# Altium integrated library Vishay Roederstein Electrolytic Snap-In Pins Capacitor.IntLib: 936 symbols (part 7 of 16)
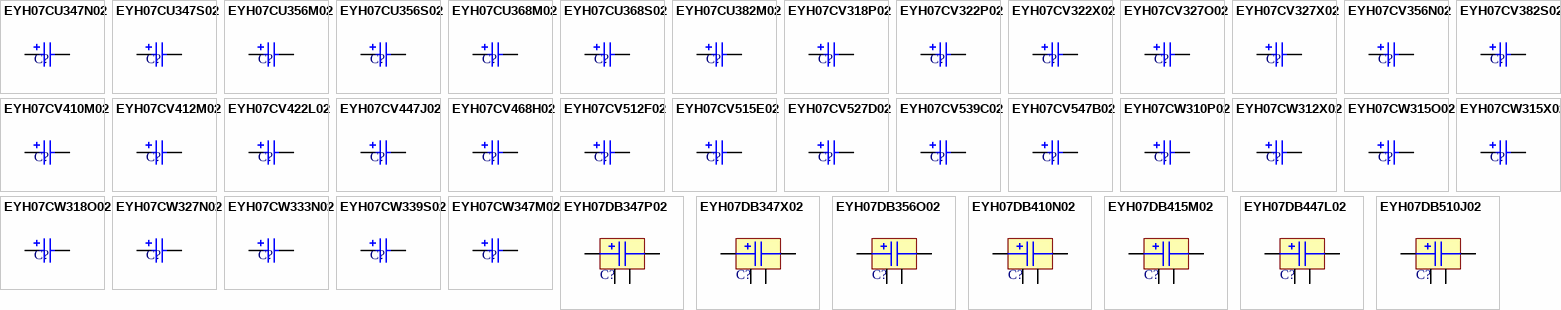
[diagram p29: symbols EYH07CU347N02 to EYH07DB510J02]

## EYH07CU347N02
designator C?
Aluminum Electrolytic Capacitor, Power Capacitor Style EYH, Snap-in 6mm Solder Pins: 470uF, 250V; PCB_Layout: Complies with Manufacturer's Recommendation.; DrillSize: Nominal, Complies with Manufacturer's Recommendation.; Published: 19-Mar-2004; DatasheetDocument: 14-Feb-2002; PackageReference: CAPPRS10-35X25; Publisher: Altium Limited; ComponentLink1Description: Manufacturer Link; ComponentLink1URL: http://www.vishay.com/; ComponentLink2Description: Datasheet; ComponentLink2URL: http://www.vishay.com/docs/25139/eyh.pdf; Value: 470uF
footprint CAPPRS10-35X25 (Capacitor, Electrolytic, Radial, Snap-In Pins; Body 35 x 25 mm (Dia.xH typ); Pin Spacing 10 mm (typ))
simulation model CAP (Capacitor)
signal-integrity model EYH07CU347N02
pins: 1, 2
1 alternate drawing of the same symbol

## EYH07CU347S02
designator C?
Aluminum Electrolytic Capacitor, Power Capacitor Style EYH, Snap-in 6mm Solder Pins: 470uF, 200V; PCB_Layout: Complies with Manufacturer's Recommendation.; DrillSize: Nominal, Complies with Manufacturer's Recommendation.; Published: 19-Mar-2004; DatasheetDocument: 14-Feb-2002; PackageReference: CAPPRS10-35X25; Publisher: Altium Limited; ComponentLink1Description: Manufacturer Link; ComponentLink1URL: http://www.vishay.com/; ComponentLink2Description: Datasheet; ComponentLink2URL: http://www.vishay.com/docs/25139/eyh.pdf; Value: 470uF
footprint CAPPRS10-35X25 (Capacitor, Electrolytic, Radial, Snap-In Pins; Body 35 x 25 mm (Dia.xH typ); Pin Spacing 10 mm (typ))
simulation model CAP (Capacitor)
signal-integrity model EYH07CU347S02
pins: 1, 2
1 alternate drawing of the same symbol

## EYH07CU356M02
designator C?
Aluminum Electrolytic Capacitor, Power Capacitor Style EYH, Snap-in 6mm Solder Pins: 560uF, 160V; PCB_Layout: Complies with Manufacturer's Recommendation.; DrillSize: Nominal, Complies with Manufacturer's Recommendation.; Published: 19-Mar-2004; DatasheetDocument: 14-Feb-2002; PackageReference: CAPPRS10-35X25; Publisher: Altium Limited; ComponentLink1Description: Manufacturer Link; ComponentLink1URL: http://www.vishay.com/; ComponentLink2Description: Datasheet; ComponentLink2URL: http://www.vishay.com/docs/25139/eyh.pdf; Value: 560uF
footprint CAPPRS10-35X25 (Capacitor, Electrolytic, Radial, Snap-In Pins; Body 35 x 25 mm (Dia.xH typ); Pin Spacing 10 mm (typ))
simulation model CAP (Capacitor)
signal-integrity model EYH07CU356M02
pins: 1, 2
1 alternate drawing of the same symbol

## EYH07CU356S02
designator C?
Aluminum Electrolytic Capacitor, Power Capacitor Style EYH, Snap-in 6mm Solder Pins: 560uF, 200V; PCB_Layout: Complies with Manufacturer's Recommendation.; DrillSize: Nominal, Complies with Manufacturer's Recommendation.; Published: 19-Mar-2004; DatasheetDocument: 14-Feb-2002; PackageReference: CAPPRS10-35X25; Publisher: Altium Limited; ComponentLink1Description: Manufacturer Link; ComponentLink1URL: http://www.vishay.com/; ComponentLink2Description: Datasheet; ComponentLink2URL: http://www.vishay.com/docs/25139/eyh.pdf; Value: 560uF
footprint CAPPRS10-35X25 (Capacitor, Electrolytic, Radial, Snap-In Pins; Body 35 x 25 mm (Dia.xH typ); Pin Spacing 10 mm (typ))
simulation model CAP (Capacitor)
signal-integrity model EYH07CU356S02
pins: 1, 2
1 alternate drawing of the same symbol

## EYH07CU368M02
designator C?
Aluminum Electrolytic Capacitor, Power Capacitor Style EYH, Snap-in 6mm Solder Pins: 680uF, 160V; PCB_Layout: Complies with Manufacturer's Recommendation.; DrillSize: Nominal, Complies with Manufacturer's Recommendation.; Published: 19-Mar-2004; DatasheetDocument: 14-Feb-2002; PackageReference: CAPPRS10-35X25; Publisher: Altium Limited; ComponentLink1Description: Manufacturer Link; ComponentLink1URL: http://www.vishay.com/; ComponentLink2Description: Datasheet; ComponentLink2URL: http://www.vishay.com/docs/25139/eyh.pdf; Value: 680uF
footprint CAPPRS10-35X25 (Capacitor, Electrolytic, Radial, Snap-In Pins; Body 35 x 25 mm (Dia.xH typ); Pin Spacing 10 mm (typ))
simulation model CAP (Capacitor)
signal-integrity model EYH07CU368M02
pins: 1, 2
1 alternate drawing of the same symbol

## EYH07CU368S02
designator C?
Aluminum Electrolytic Capacitor, Power Capacitor Style EYH, Snap-in 6mm Solder Pins: 680uF, 200V; PCB_Layout: Complies with Manufacturer's Recommendation.; DrillSize: Nominal, Complies with Manufacturer's Recommendation.; Published: 19-Mar-2004; DatasheetDocument: 14-Feb-2002; PackageReference: CAPPRS10-35X25; Publisher: Altium Limited; ComponentLink1Description: Manufacturer Link; ComponentLink1URL: http://www.vishay.com/; ComponentLink2Description: Datasheet; ComponentLink2URL: http://www.vishay.com/docs/25139/eyh.pdf; Value: 680uF
footprint CAPPRS10-35X25 (Capacitor, Electrolytic, Radial, Snap-In Pins; Body 35 x 25 mm (Dia.xH typ); Pin Spacing 10 mm (typ))
simulation model CAP (Capacitor)
signal-integrity model EYH07CU368S02
pins: 1, 2
1 alternate drawing of the same symbol

## EYH07CU382M02
designator C?
Aluminum Electrolytic Capacitor, Power Capacitor Style EYH, Snap-in 6mm Solder Pins: 820uF, 160V; PCB_Layout: Complies with Manufacturer's Recommendation.; DrillSize: Nominal, Complies with Manufacturer's Recommendation.; Published: 19-Mar-2004; DatasheetDocument: 14-Feb-2002; PackageReference: CAPPRS10-35X25; Publisher: Altium Limited; ComponentLink1Description: Manufacturer Link; ComponentLink1URL: http://www.vishay.com/; ComponentLink2Description: Datasheet; ComponentLink2URL: http://www.vishay.com/docs/25139/eyh.pdf; Value: 820uF
footprint CAPPRS10-35X25 (Capacitor, Electrolytic, Radial, Snap-In Pins; Body 35 x 25 mm (Dia.xH typ); Pin Spacing 10 mm (typ))
simulation model CAP (Capacitor)
signal-integrity model EYH07CU382M02
pins: 1, 2
1 alternate drawing of the same symbol

## EYH07CV318P02
designator C?
Aluminum Electrolytic Capacitor, Power Capacitor Style EYH, Snap-in 6mm Solder Pins: 180uF, 450V; PCB_Layout: Complies with Manufacturer's Recommendation.; DrillSize: Nominal, Complies with Manufacturer's Recommendation.; Published: 19-Mar-2004; DatasheetDocument: 14-Feb-2002; PackageReference: CAPPRS10-35X30; Publisher: Altium Limited; ComponentLink1Description: Manufacturer Link; ComponentLink1URL: http://www.vishay.com/; ComponentLink2Description: Datasheet; ComponentLink2URL: http://www.vishay.com/docs/25139/eyh.pdf; Value: 180uF
footprint CAPPRS10-35X30 (Capacitor, Electrolytic, Radial, Snap-In Pins; Body 35 x 30 mm (Dia.xH typ); Pin Spacing 10 mm (typ))
simulation model CAP (Capacitor)
signal-integrity model EYH07CV318P02
pins: 1, 2
1 alternate drawing of the same symbol

## EYH07CV322P02
designator C?
Aluminum Electrolytic Capacitor, Power Capacitor Style EYH, Snap-in 6mm Solder Pins: 220uF, 450V; PCB_Layout: Complies with Manufacturer's Recommendation.; DrillSize: Nominal, Complies with Manufacturer's Recommendation.; Published: 19-Mar-2004; DatasheetDocument: 14-Feb-2002; PackageReference: CAPPRS10-35X30; Publisher: Altium Limited; ComponentLink1Description: Manufacturer Link; ComponentLink1URL: http://www.vishay.com/; ComponentLink2Description: Datasheet; ComponentLink2URL: http://www.vishay.com/docs/25139/eyh.pdf; Value: 220uF
footprint CAPPRS10-35X30 (Capacitor, Electrolytic, Radial, Snap-In Pins; Body 35 x 30 mm (Dia.xH typ); Pin Spacing 10 mm (typ))
simulation model CAP (Capacitor)
signal-integrity model EYH07CV322P02
pins: 1, 2
1 alternate drawing of the same symbol

## EYH07CV322X02
designator C?
Aluminum Electrolytic Capacitor, Power Capacitor Style EYH, Snap-in 6mm Solder Pins: 220uF, 400V; PCB_Layout: Complies with Manufacturer's Recommendation.; DrillSize: Nominal, Complies with Manufacturer's Recommendation.; Published: 19-Mar-2004; DatasheetDocument: 14-Feb-2002; PackageReference: CAPPRS10-35X30; Publisher: Altium Limited; ComponentLink1Description: Manufacturer Link; ComponentLink1URL: http://www.vishay.com/; ComponentLink2Description: Datasheet; ComponentLink2URL: http://www.vishay.com/docs/25139/eyh.pdf; Value: 220uF
footprint CAPPRS10-35X30 (Capacitor, Electrolytic, Radial, Snap-In Pins; Body 35 x 30 mm (Dia.xH typ); Pin Spacing 10 mm (typ))
simulation model CAP (Capacitor)
signal-integrity model EYH07CV322X02
pins: 1, 2
1 alternate drawing of the same symbol

## EYH07CV327O02
designator C?
Aluminum Electrolytic Capacitor, Power Capacitor Style EYH, Snap-in 6mm Solder Pins: 270uF, 350V; PCB_Layout: Complies with Manufacturer's Recommendation.; DrillSize: Nominal, Complies with Manufacturer's Recommendation.; Published: 19-Mar-2004; DatasheetDocument: 14-Feb-2002; PackageReference: CAPPRS10-35X30; Publisher: Altium Limited; ComponentLink1Description: Manufacturer Link; ComponentLink1URL: http://www.vishay.com/; ComponentLink2Description: Datasheet; ComponentLink2URL: http://www.vishay.com/docs/25139/eyh.pdf; Value: 270uF
footprint CAPPRS10-35X30 (Capacitor, Electrolytic, Radial, Snap-In Pins; Body 35 x 30 mm (Dia.xH typ); Pin Spacing 10 mm (typ))
simulation model CAP (Capacitor)
signal-integrity model EYH07CV327O02
pins: 1, 2
1 alternate drawing of the same symbol

## EYH07CV327X02
designator C?
Aluminum Electrolytic Capacitor, Power Capacitor Style EYH, Snap-in 6mm Solder Pins: 270uF, 400V; PCB_Layout: Complies with Manufacturer's Recommendation.; DrillSize: Nominal, Complies with Manufacturer's Recommendation.; Published: 19-Mar-2004; DatasheetDocument: 14-Feb-2002; PackageReference: CAPPRS10-35X30; Publisher: Altium Limited; ComponentLink1Description: Manufacturer Link; ComponentLink1URL: http://www.vishay.com/; ComponentLink2Description: Datasheet; ComponentLink2URL: http://www.vishay.com/docs/25139/eyh.pdf; Value: 270uF
footprint CAPPRS10-35X30 (Capacitor, Electrolytic, Radial, Snap-In Pins; Body 35 x 30 mm (Dia.xH typ); Pin Spacing 10 mm (typ))
simulation model CAP (Capacitor)
signal-integrity model EYH07CV327X02
pins: 1, 2
1 alternate drawing of the same symbol

## EYH07CV356N02
designator C?
Aluminum Electrolytic Capacitor, Power Capacitor Style EYH, Snap-in 6mm Solder Pins: 560uF, 250V; PCB_Layout: Complies with Manufacturer's Recommendation.; DrillSize: Nominal, Complies with Manufacturer's Recommendation.; Published: 19-Mar-2004; DatasheetDocument: 14-Feb-2002; PackageReference: CAPPRS10-35X30; Publisher: Altium Limited; ComponentLink1Description: Manufacturer Link; ComponentLink1URL: http://www.vishay.com/; ComponentLink2Description: Datasheet; ComponentLink2URL: http://www.vishay.com/docs/25139/eyh.pdf; Value: 560uF
footprint CAPPRS10-35X30 (Capacitor, Electrolytic, Radial, Snap-In Pins; Body 35 x 30 mm (Dia.xH typ); Pin Spacing 10 mm (typ))
simulation model CAP (Capacitor)
signal-integrity model EYH07CV356N02
pins: 1, 2
1 alternate drawing of the same symbol

## EYH07CV382S02
designator C?
Aluminum Electrolytic Capacitor, Power Capacitor Style EYH, Snap-in 6mm Solder Pins: 820uF, 200V; PCB_Layout: Complies with Manufacturer's Recommendation.; DrillSize: Nominal, Complies with Manufacturer's Recommendation.; Published: 19-Mar-2004; DatasheetDocument: 14-Feb-2002; PackageReference: CAPPRS10-35X30; Publisher: Altium Limited; ComponentLink1Description: Manufacturer Link; ComponentLink1URL: http://www.vishay.com/; ComponentLink2Description: Datasheet; ComponentLink2URL: http://www.vishay.com/docs/25139/eyh.pdf; Value: 820uF
footprint CAPPRS10-35X30 (Capacitor, Electrolytic, Radial, Snap-In Pins; Body 35 x 30 mm (Dia.xH typ); Pin Spacing 10 mm (typ))
simulation model CAP (Capacitor)
signal-integrity model EYH07CV382S02
pins: 1, 2
1 alternate drawing of the same symbol

## EYH07CV410M02
designator C?
Aluminum Electrolytic Capacitor, Power Capacitor Style EYH, Snap-in 6mm Solder Pins: 1000uF, 160V; PCB_Layout: Complies with Manufacturer's Recommendation.; DrillSize: Nominal, Complies with Manufacturer's Recommendation.; Published: 19-Mar-2004; DatasheetDocument: 14-Feb-2002; PackageReference: CAPPRS10-35X30; Publisher: Altium Limited; ComponentLink1Description: Manufacturer Link; ComponentLink1URL: http://www.vishay.com/; ComponentLink2Description: Datasheet; ComponentLink2URL: http://www.vishay.com/docs/25139/eyh.pdf; Value: 1000uF
footprint CAPPRS10-35X30 (Capacitor, Electrolytic, Radial, Snap-In Pins; Body 35 x 30 mm (Dia.xH typ); Pin Spacing 10 mm (typ))
simulation model CAP (Capacitor)
signal-integrity model EYH07CV410M02
pins: 1, 2
1 alternate drawing of the same symbol

## EYH07CV412M02
designator C?
Aluminum Electrolytic Capacitor, Power Capacitor Style EYH, Snap-in 6mm Solder Pins: 1200uF, 160V; PCB_Layout: Complies with Manufacturer's Recommendation.; DrillSize: Nominal, Complies with Manufacturer's Recommendation.; Published: 19-Mar-2004; DatasheetDocument: 14-Feb-2002; PackageReference: CAPPRS10-35X30; Publisher: Altium Limited; ComponentLink1Description: Manufacturer Link; ComponentLink1URL: http://www.vishay.com/; ComponentLink2Description: Datasheet; ComponentLink2URL: http://www.vishay.com/docs/25139/eyh.pdf; Value: 1200uF
footprint CAPPRS10-35X30 (Capacitor, Electrolytic, Radial, Snap-In Pins; Body 35 x 30 mm (Dia.xH typ); Pin Spacing 10 mm (typ))
simulation model CAP (Capacitor)
signal-integrity model EYH07CV412M02
pins: 1, 2
1 alternate drawing of the same symbol

## EYH07CV422L02
designator C?
Aluminum Electrolytic Capacitor, Power Capacitor Style EYH, Snap-in 6mm Solder Pins: 2200uF, 100V; PCB_Layout: Complies with Manufacturer's Recommendation.; DrillSize: Nominal, Complies with Manufacturer's Recommendation.; Published: 19-Mar-2004; DatasheetDocument: 14-Feb-2002; PackageReference: CAPPRS10-35X30; Publisher: Altium Limited; ComponentLink1Description: Manufacturer Link; ComponentLink1URL: http://www.vishay.com/; ComponentLink2Description: Datasheet; ComponentLink2URL: http://www.vishay.com/docs/25139/eyh.pdf; Value: 2200uF
footprint CAPPRS10-35X30 (Capacitor, Electrolytic, Radial, Snap-In Pins; Body 35 x 30 mm (Dia.xH typ); Pin Spacing 10 mm (typ))
simulation model CAP (Capacitor)
signal-integrity model EYH07CV422L02
pins: 1, 2
1 alternate drawing of the same symbol

## EYH07CV447J02
designator C?
Aluminum Electrolytic Capacitor, Power Capacitor Style EYH, Snap-in 6mm Solder Pins: 4700uF, 63V; PCB_Layout: Complies with Manufacturer's Recommendation.; DrillSize: Nominal, Complies with Manufacturer's Recommendation.; Published: 19-Mar-2004; DatasheetDocument: 14-Feb-2002; PackageReference: CAPPRS10-35X30; Publisher: Altium Limited; ComponentLink1Description: Manufacturer Link; ComponentLink1URL: http://www.vishay.com/; ComponentLink2Description: Datasheet; ComponentLink2URL: http://www.vishay.com/docs/25139/eyh.pdf; Value: 4700uF
footprint CAPPRS10-35X30 (Capacitor, Electrolytic, Radial, Snap-In Pins; Body 35 x 30 mm (Dia.xH typ); Pin Spacing 10 mm (typ))
simulation model CAP (Capacitor)
signal-integrity model EYH07CV447J02
pins: 1, 2
1 alternate drawing of the same symbol

## EYH07CV468H02
designator C?
Aluminum Electrolytic Capacitor, Power Capacitor Style EYH, Snap-in 6mm Solder Pins: 6800uF, 50V; PCB_Layout: Complies with Manufacturer's Recommendation.; DrillSize: Nominal, Complies with Manufacturer's Recommendation.; Published: 19-Mar-2004; DatasheetDocument: 14-Feb-2002; PackageReference: CAPPRS10-35X30; Publisher: Altium Limited; ComponentLink1Description: Manufacturer Link; ComponentLink1URL: http://www.vishay.com/; ComponentLink2Description: Datasheet; ComponentLink2URL: http://www.vishay.com/docs/25139/eyh.pdf; Value: 6800uF
footprint CAPPRS10-35X30 (Capacitor, Electrolytic, Radial, Snap-In Pins; Body 35 x 30 mm (Dia.xH typ); Pin Spacing 10 mm (typ))
simulation model CAP (Capacitor)
signal-integrity model EYH07CV468H02
pins: 1, 2
1 alternate drawing of the same symbol

## EYH07CV512F02
designator C?
Aluminum Electrolytic Capacitor, Power Capacitor Style EYH, Snap-in 6mm Solder Pins: 12000uF, 35V; PCB_Layout: Complies with Manufacturer's Recommendation.; DrillSize: Nominal, Complies with Manufacturer's Recommendation.; Published: 19-Mar-2004; DatasheetDocument: 14-Feb-2002; PackageReference: CAPPRS10-35X30; Publisher: Altium Limited; ComponentLink1Description: Manufacturer Link; ComponentLink1URL: http://www.vishay.com/; ComponentLink2Description: Datasheet; ComponentLink2URL: http://www.vishay.com/docs/25139/eyh.pdf; Value: 12000uF
footprint CAPPRS10-35X30 (Capacitor, Electrolytic, Radial, Snap-In Pins; Body 35 x 30 mm (Dia.xH typ); Pin Spacing 10 mm (typ))
simulation model CAP (Capacitor)
signal-integrity model EYH07CV512F02
pins: 1, 2
1 alternate drawing of the same symbol

## EYH07CV515E02
designator C?
Aluminum Electrolytic Capacitor, Power Capacitor Style EYH, Snap-in 6mm Solder Pins: 15000uF, 25V; PCB_Layout: Complies with Manufacturer's Recommendation.; DrillSize: Nominal, Complies with Manufacturer's Recommendation.; Published: 19-Mar-2004; DatasheetDocument: 14-Feb-2002; PackageReference: CAPPRS10-35X30; Publisher: Altium Limited; ComponentLink1Description: Manufacturer Link; ComponentLink1URL: http://www.vishay.com/; ComponentLink2Description: Datasheet; ComponentLink2URL: http://www.vishay.com/docs/25139/eyh.pdf; Value: 15000uF
footprint CAPPRS10-35X30 (Capacitor, Electrolytic, Radial, Snap-In Pins; Body 35 x 30 mm (Dia.xH typ); Pin Spacing 10 mm (typ))
simulation model CAP (Capacitor)
signal-integrity model EYH07CV515E02
pins: 1, 2
1 alternate drawing of the same symbol

## EYH07CV527D02
designator C?
Aluminum Electrolytic Capacitor, Power Capacitor Style EYH, Snap-in 6mm Solder Pins: 27000uF, 16V; PCB_Layout: Complies with Manufacturer's Recommendation.; DrillSize: Nominal, Complies with Manufacturer's Recommendation.; Published: 19-Mar-2004; DatasheetDocument: 14-Feb-2002; PackageReference: CAPPRS10-35X30; Publisher: Altium Limited; ComponentLink1Description: Manufacturer Link; ComponentLink1URL: http://www.vishay.com/; ComponentLink2Description: Datasheet; ComponentLink2URL: http://www.vishay.com/docs/25139/eyh.pdf; Value: 27000uF
footprint CAPPRS10-35X30 (Capacitor, Electrolytic, Radial, Snap-In Pins; Body 35 x 30 mm (Dia.xH typ); Pin Spacing 10 mm (typ))
simulation model CAP (Capacitor)
signal-integrity model EYH07CV527D02
pins: 1, 2
1 alternate drawing of the same symbol

## EYH07CV539C02
designator C?
Aluminum Electrolytic Capacitor, Power Capacitor Style EYH, Snap-in 6mm Solder Pins: 39000uF, 10V; PCB_Layout: Complies with Manufacturer's Recommendation.; DrillSize: Nominal, Complies with Manufacturer's Recommendation.; Published: 19-Mar-2004; DatasheetDocument: 14-Feb-2002; PackageReference: CAPPRS10-35X30; Publisher: Altium Limited; ComponentLink1Description: Manufacturer Link; ComponentLink1URL: http://www.vishay.com/; ComponentLink2Description: Datasheet; ComponentLink2URL: http://www.vishay.com/docs/25139/eyh.pdf; Value: 39000uF
footprint CAPPRS10-35X30 (Capacitor, Electrolytic, Radial, Snap-In Pins; Body 35 x 30 mm (Dia.xH typ); Pin Spacing 10 mm (typ))
simulation model CAP (Capacitor)
signal-integrity model EYH07CV539C02
pins: 1, 2
1 alternate drawing of the same symbol

## EYH07CV547B02
designator C?
Aluminum Electrolytic Capacitor, Power Capacitor Style EYH, Snap-in 6mm Solder Pins: 47000uF, 6.3V; PCB_Layout: Complies with Manufacturer's Recommendation.; DrillSize: Nominal, Complies with Manufacturer's Recommendation.; Published: 19-Mar-2004; DatasheetDocument: 14-Feb-2002; PackageReference: CAPPRS10-35X30; Publisher: Altium Limited; ComponentLink1Description: Manufacturer Link; ComponentLink1URL: http://www.vishay.com/; ComponentLink2Description: Datasheet; ComponentLink2URL: http://www.vishay.com/docs/25139/eyh.pdf; Value: 47000uF
footprint CAPPRS10-35X30 (Capacitor, Electrolytic, Radial, Snap-In Pins; Body 35 x 30 mm (Dia.xH typ); Pin Spacing 10 mm (typ))
simulation model CAP (Capacitor)
signal-integrity model EYH07CV547B02
pins: 1, 2
1 alternate drawing of the same symbol

## EYH07CW310P02
designator C?
Aluminum Electrolytic Capacitor, Power Capacitor Style EYH, Snap-in 6mm Solder Pins: 100uF, 450V; PCB_Layout: Complies with Manufacturer's Recommendation.; DrillSize: Nominal, Complies with Manufacturer's Recommendation.; Published: 19-Mar-2004; DatasheetDocument: 14-Feb-2002; PackageReference: CAPPRS10-35X20; Publisher: Altium Limited; ComponentLink1Description: Manufacturer Link; ComponentLink1URL: http://www.vishay.com/; ComponentLink2Description: Datasheet; ComponentLink2URL: http://www.vishay.com/docs/25139/eyh.pdf; Value: 100uF
footprint CAPPRS10-35X20 (Capacitor, Electrolytic, Radial, Snap-In Pins; Body 35 x 20 mm (Dia.xH typ); Pin Spacing 10 mm (typ))
simulation model CAP (Capacitor)
signal-integrity model EYH07CW310P02
pins: 1, 2
1 alternate drawing of the same symbol

## EYH07CW312X02
designator C?
Aluminum Electrolytic Capacitor, Power Capacitor Style EYH, Snap-in 6mm Solder Pins: 120uF, 400V; PCB_Layout: Complies with Manufacturer's Recommendation.; DrillSize: Nominal, Complies with Manufacturer's Recommendation.; Published: 19-Mar-2004; DatasheetDocument: 14-Feb-2002; PackageReference: CAPPRS10-35X20; Publisher: Altium Limited; ComponentLink1Description: Manufacturer Link; ComponentLink1URL: http://www.vishay.com/; ComponentLink2Description: Datasheet; ComponentLink2URL: http://www.vishay.com/docs/25139/eyh.pdf; Value: 120uF
footprint CAPPRS10-35X20 (Capacitor, Electrolytic, Radial, Snap-In Pins; Body 35 x 20 mm (Dia.xH typ); Pin Spacing 10 mm (typ))
simulation model CAP (Capacitor)
signal-integrity model EYH07CW312X02
pins: 1, 2
1 alternate drawing of the same symbol

## EYH07CW315O02
designator C?
Aluminum Electrolytic Capacitor, Power Capacitor Style EYH, Snap-in 6mm Solder Pins: 150uF, 350V; PCB_Layout: Complies with Manufacturer's Recommendation.; DrillSize: Nominal, Complies with Manufacturer's Recommendation.; Published: 19-Mar-2004; DatasheetDocument: 14-Feb-2002; PackageReference: CAPPRS10-35X20; Publisher: Altium Limited; ComponentLink1Description: Manufacturer Link; ComponentLink1URL: http://www.vishay.com/; ComponentLink2Description: Datasheet; ComponentLink2URL: http://www.vishay.com/docs/25139/eyh.pdf; Value: 150uF
footprint CAPPRS10-35X20 (Capacitor, Electrolytic, Radial, Snap-In Pins; Body 35 x 20 mm (Dia.xH typ); Pin Spacing 10 mm (typ))
simulation model CAP (Capacitor)
signal-integrity model EYH07CW315O02
pins: 1, 2
1 alternate drawing of the same symbol

## EYH07CW315X02
designator C?
Aluminum Electrolytic Capacitor, Power Capacitor Style EYH, Snap-in 6mm Solder Pins: 150uF, 400V; PCB_Layout: Complies with Manufacturer's Recommendation.; DrillSize: Nominal, Complies with Manufacturer's Recommendation.; Published: 19-Mar-2004; DatasheetDocument: 14-Feb-2002; PackageReference: CAPPRS10-35X20; Publisher: Altium Limited; ComponentLink1Description: Manufacturer Link; ComponentLink1URL: http://www.vishay.com/; ComponentLink2Description: Datasheet; ComponentLink2URL: http://www.vishay.com/docs/25139/eyh.pdf; Value: 150uF
footprint CAPPRS10-35X20 (Capacitor, Electrolytic, Radial, Snap-In Pins; Body 35 x 20 mm (Dia.xH typ); Pin Spacing 10 mm (typ))
simulation model CAP (Capacitor)
signal-integrity model EYH07CW315X02
pins: 1, 2
1 alternate drawing of the same symbol

## EYH07CW318O02
designator C?
Aluminum Electrolytic Capacitor, Power Capacitor Style EYH, Snap-in 6mm Solder Pins: 180uF, 350V; PCB_Layout: Complies with Manufacturer's Recommendation.; DrillSize: Nominal, Complies with Manufacturer's Recommendation.; Published: 19-Mar-2004; DatasheetDocument: 14-Feb-2002; PackageReference: CAPPRS10-35X20; Publisher: Altium Limited; ComponentLink1Description: Manufacturer Link; ComponentLink1URL: http://www.vishay.com/; ComponentLink2Description: Datasheet; ComponentLink2URL: http://www.vishay.com/docs/25139/eyh.pdf; Value: 180uF
footprint CAPPRS10-35X20 (Capacitor, Electrolytic, Radial, Snap-In Pins; Body 35 x 20 mm (Dia.xH typ); Pin Spacing 10 mm (typ))
simulation model CAP (Capacitor)
signal-integrity model EYH07CW318O02
pins: 1, 2
1 alternate drawing of the same symbol

## EYH07CW327N02
designator C?
Aluminum Electrolytic Capacitor, Power Capacitor Style EYH, Snap-in 6mm Solder Pins: 270uF, 250V; PCB_Layout: Complies with Manufacturer's Recommendation.; DrillSize: Nominal, Complies with Manufacturer's Recommendation.; Published: 19-Mar-2004; DatasheetDocument: 14-Feb-2002; PackageReference: CAPPRS10-35X20; Publisher: Altium Limited; ComponentLink1Description: Manufacturer Link; ComponentLink1URL: http://www.vishay.com/; ComponentLink2Description: Datasheet; ComponentLink2URL: http://www.vishay.com/docs/25139/eyh.pdf; Value: 270uF
footprint CAPPRS10-35X20 (Capacitor, Electrolytic, Radial, Snap-In Pins; Body 35 x 20 mm (Dia.xH typ); Pin Spacing 10 mm (typ))
simulation model CAP (Capacitor)
signal-integrity model EYH07CW327N02
pins: 1, 2
1 alternate drawing of the same symbol

## EYH07CW333N02
designator C?
Aluminum Electrolytic Capacitor, Power Capacitor Style EYH, Snap-in 6mm Solder Pins: 330uF, 250V; PCB_Layout: Complies with Manufacturer's Recommendation.; DrillSize: Nominal, Complies with Manufacturer's Recommendation.; Published: 19-Mar-2004; DatasheetDocument: 14-Feb-2002; PackageReference: CAPPRS10-35X20; Publisher: Altium Limited; ComponentLink1Description: Manufacturer Link; ComponentLink1URL: http://www.vishay.com/; ComponentLink2Description: Datasheet; ComponentLink2URL: http://www.vishay.com/docs/25139/eyh.pdf; Value: 330uF
footprint CAPPRS10-35X20 (Capacitor, Electrolytic, Radial, Snap-In Pins; Body 35 x 20 mm (Dia.xH typ); Pin Spacing 10 mm (typ))
simulation model CAP (Capacitor)
signal-integrity model EYH07CW333N02
pins: 1, 2
1 alternate drawing of the same symbol

## EYH07CW339S02
designator C?
Aluminum Electrolytic Capacitor, Power Capacitor Style EYH, Snap-in 6mm Solder Pins: 390uF, 200V; PCB_Layout: Complies with Manufacturer's Recommendation.; DrillSize: Nominal, Complies with Manufacturer's Recommendation.; Published: 19-Mar-2004; DatasheetDocument: 14-Feb-2002; PackageReference: CAPPRS10-35X20; Publisher: Altium Limited; ComponentLink1Description: Manufacturer Link; ComponentLink1URL: http://www.vishay.com/; ComponentLink2Description: Datasheet; ComponentLink2URL: http://www.vishay.com/docs/25139/eyh.pdf; Value: 390uF
footprint CAPPRS10-35X20 (Capacitor, Electrolytic, Radial, Snap-In Pins; Body 35 x 20 mm (Dia.xH typ); Pin Spacing 10 mm (typ))
simulation model CAP (Capacitor)
signal-integrity model EYH07CW339S02
pins: 1, 2
1 alternate drawing of the same symbol

## EYH07CW347M02
designator C?
Aluminum Electrolytic Capacitor, Power Capacitor Style EYH, Snap-in 6mm Solder Pins: 470uF, 160V; PCB_Layout: Complies with Manufacturer's Recommendation.; DrillSize: Nominal, Complies with Manufacturer's Recommendation.; Published: 19-Mar-2004; DatasheetDocument: 14-Feb-2002; PackageReference: CAPPRS10-35X20; Publisher: Altium Limited; ComponentLink1Description: Manufacturer Link; ComponentLink1URL: http://www.vishay.com/; ComponentLink2Description: Datasheet; ComponentLink2URL: http://www.vishay.com/docs/25139/eyh.pdf; Value: 470uF
footprint CAPPRS10-35X20 (Capacitor, Electrolytic, Radial, Snap-In Pins; Body 35 x 20 mm (Dia.xH typ); Pin Spacing 10 mm (typ))
simulation model CAP (Capacitor)
signal-integrity model EYH07CW347M02
pins: 1, 2
1 alternate drawing of the same symbol

## EYH07DB347P02
designator C?
Aluminum Electrolytic Capacitor, Power Capacitor Style EYH, Snap-in 6mm Solder Pins: 470uF, 450V; Note: Pins 3 and 4 are Mounting Fixtures Only; PCB_Layout: Complies with Manufacturer's Recommendation.; DrillSize: Nominal, Complies with Manufacturer's Recommendation.; Published: 19-Mar-2004; DatasheetDocument: 14-Feb-2002; PackageReference: CAPPRS22.5-40X40-4; Publisher: Altium Limited; ComponentLink1Description: Manufacturer Link; ComponentLink1URL: http://www.vishay.com/; ComponentLink2Description: Datasheet; ComponentLink2URL: http://www.vishay.com/docs/25139/eyh.pdf
footprint CAPPRS22.5-40X40-4 (Capacitor, Electrolytic, Radial, Snap-In Pins; Body 40 x 40 mm (Dia.xH typ); Pin Spacing 22.5 mm (typ))
simulation model CAP (Capacitor)
pins: 1, 2, 3 MH, 4 MH

## EYH07DB347X02
designator C?
Aluminum Electrolytic Capacitor, Power Capacitor Style EYH, Snap-in 6mm Solder Pins: 470uF, 400V; Note: Pins 3 and 4 are Mounting Fixtures Only; PCB_Layout: Complies with Manufacturer's Recommendation.; DrillSize: Nominal, Complies with Manufacturer's Recommendation.; Published: 19-Mar-2004; DatasheetDocument: 14-Feb-2002; PackageReference: CAPPRS22.5-40X40-4; Publisher: Altium Limited; ComponentLink1Description: Manufacturer Link; ComponentLink1URL: http://www.vishay.com/; ComponentLink2Description: Datasheet; ComponentLink2URL: http://www.vishay.com/docs/25139/eyh.pdf
footprint CAPPRS22.5-40X40-4 (Capacitor, Electrolytic, Radial, Snap-In Pins; Body 40 x 40 mm (Dia.xH typ); Pin Spacing 22.5 mm (typ))
simulation model CAP (Capacitor)
pins: 1, 2, 3 MH, 4 MH

## EYH07DB356O02
designator C?
Aluminum Electrolytic Capacitor, Power Capacitor Style EYH, Snap-in 6mm Solder Pins: 560uF, 350V; Note: Pins 3 and 4 are Mounting Fixtures Only; PCB_Layout: Complies with Manufacturer's Recommendation.; DrillSize: Nominal, Complies with Manufacturer's Recommendation.; Published: 19-Mar-2004; DatasheetDocument: 14-Feb-2002; PackageReference: CAPPRS22.5-40X40-4; Publisher: Altium Limited; ComponentLink1Description: Manufacturer Link; ComponentLink1URL: http://www.vishay.com/; ComponentLink2Description: Datasheet; ComponentLink2URL: http://www.vishay.com/docs/25139/eyh.pdf
footprint CAPPRS22.5-40X40-4 (Capacitor, Electrolytic, Radial, Snap-In Pins; Body 40 x 40 mm (Dia.xH typ); Pin Spacing 22.5 mm (typ))
simulation model CAP (Capacitor)
pins: 1, 2, 3 MH, 4 MH

## EYH07DB410N02
designator C?
Aluminum Electrolytic Capacitor, Power Capacitor Style EYH, Snap-in 6mm Solder Pins: 1000uF, 250V; Note: Pins 3 and 4 are Mounting Fixtures Only; PCB_Layout: Complies with Manufacturer's Recommendation.; DrillSize: Nominal, Complies with Manufacturer's Recommendation.; Published: 19-Mar-2004; DatasheetDocument: 14-Feb-2002; PackageReference: CAPPRS22.5-40X40-4; Publisher: Altium Limited; ComponentLink1Description: Manufacturer Link; ComponentLink1URL: http://www.vishay.com/; ComponentLink2Description: Datasheet; ComponentLink2URL: http://www.vishay.com/docs/25139/eyh.pdf
footprint CAPPRS22.5-40X40-4 (Capacitor, Electrolytic, Radial, Snap-In Pins; Body 40 x 40 mm (Dia.xH typ); Pin Spacing 22.5 mm (typ))
simulation model CAP (Capacitor)
pins: 1, 2, 3 MH, 4 MH

## EYH07DB415M02
designator C?
Aluminum Electrolytic Capacitor, Power Capacitor Style EYH, Snap-in 6mm Solder Pins: 1500uF, 160V; Note: Pins 3 and 4 are Mounting Fixtures Only; PCB_Layout: Complies with Manufacturer's Recommendation.; DrillSize: Nominal, Complies with Manufacturer's Recommendation.; Published: 19-Mar-2004; DatasheetDocument: 14-Feb-2002; PackageReference: CAPPRS22.5-40X40-4; Publisher: Altium Limited; ComponentLink1Description: Manufacturer Link; ComponentLink1URL: http://www.vishay.com/; ComponentLink2Description: Datasheet; ComponentLink2URL: http://www.vishay.com/docs/25139/eyh.pdf
footprint CAPPRS22.5-40X40-4 (Capacitor, Electrolytic, Radial, Snap-In Pins; Body 40 x 40 mm (Dia.xH typ); Pin Spacing 22.5 mm (typ))
simulation model CAP (Capacitor)
pins: 1, 2, 3 MH, 4 MH

## EYH07DB447L02
designator C?
Aluminum Electrolytic Capacitor, Power Capacitor Style EYH, Snap-in 6mm Solder Pins: 4700uF, 100V; Note: Pins 3 and 4 are Mounting Fixtures Only; PCB_Layout: Complies with Manufacturer's Recommendation.; DrillSize: Nominal, Complies with Manufacturer's Recommendation.; Published: 19-Mar-2004; DatasheetDocument: 14-Feb-2002; PackageReference: CAPPRS22.5-40X40-4; Publisher: Altium Limited; ComponentLink1Description: Manufacturer Link; ComponentLink1URL: http://www.vishay.com/; ComponentLink2Description: Datasheet; ComponentLink2URL: http://www.vishay.com/docs/25139/eyh.pdf
footprint CAPPRS22.5-40X40-4 (Capacitor, Electrolytic, Radial, Snap-In Pins; Body 40 x 40 mm (Dia.xH typ); Pin Spacing 22.5 mm (typ))
simulation model CAP (Capacitor)
pins: 1, 2, 3 MH, 4 MH

## EYH07DB510J02
designator C?
Aluminum Electrolytic Capacitor, Power Capacitor Style EYH, Snap-in 6mm Solder Pins: 10000uF, 63V; Note: Pins 3 and 4 are Mounting Fixtures Only; PCB_Layout: Complies with Manufacturer's Recommendation.; DrillSize: Nominal, Complies with Manufacturer's Recommendation.; Published: 19-Mar-2004; DatasheetDocument: 14-Feb-2002; PackageReference: CAPPRS22.5-40X60-4; Publisher: Altium Limited; ComponentLink1Description: Manufacturer Link; ComponentLink1URL: http://www.vishay.com/; ComponentLink2Description: Datasheet; ComponentLink2URL: http://www.vishay.com/docs/25139/eyh.pdf
footprint CAPPRS22.5-40X60-4 (Capacitor, Electrolytic, Radial, Snap-In Pins; Body 40 x 60 mm (Dia.xH typ); Pin Spacing 22.5 mm (typ))
simulation model CAP (Capacitor)
pins: 1, 2, 3 MH, 4 MH

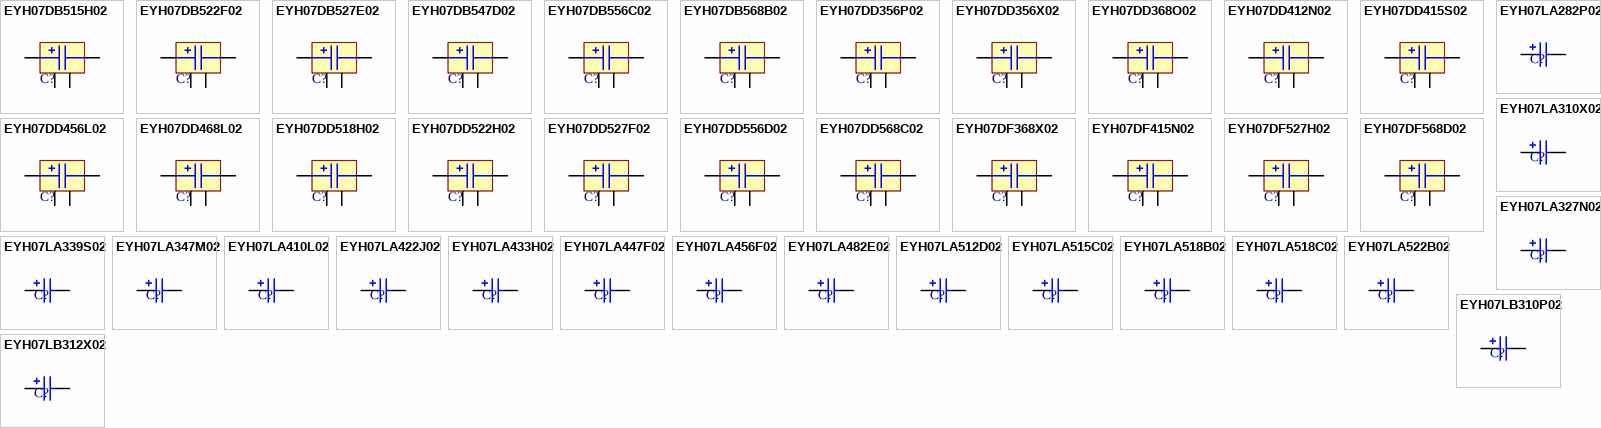
[diagram p10: symbols EYH07DB515H02 to EYH07LB312X02]

## EYH07DB515H02
designator C?
Aluminum Electrolytic Capacitor, Power Capacitor Style EYH, Snap-in 6mm Solder Pins: 15000uF, 50V; Note: Pins 3 and 4 are Mounting Fixtures Only; PCB_Layout: Complies with Manufacturer's Recommendation.; DrillSize: Nominal, Complies with Manufacturer's Recommendation.; Published: 19-Mar-2004; DatasheetDocument: 14-Feb-2002; PackageReference: CAPPRS22.5-40X40-4; Publisher: Altium Limited; ComponentLink1Description: Manufacturer Link; ComponentLink1URL: http://www.vishay.com/; ComponentLink2Description: Datasheet; ComponentLink2URL: http://www.vishay.com/docs/25139/eyh.pdf
footprint CAPPRS22.5-40X40-4 (Capacitor, Electrolytic, Radial, Snap-In Pins; Body 40 x 40 mm (Dia.xH typ); Pin Spacing 22.5 mm (typ))
simulation model CAP (Capacitor)
pins: 1, 2, 3 MH, 4 MH

## EYH07DB522F02
designator C?
Aluminum Electrolytic Capacitor, Power Capacitor Style EYH, Snap-in 6mm Solder Pins: 22000uF, 35V; Note: Pins 3 and 4 are Mounting Fixtures Only; PCB_Layout: Complies with Manufacturer's Recommendation.; DrillSize: Nominal, Complies with Manufacturer's Recommendation.; Published: 19-Mar-2004; DatasheetDocument: 14-Feb-2002; PackageReference: CAPPRS22.5-40X40-4; Publisher: Altium Limited; ComponentLink1Description: Manufacturer Link; ComponentLink1URL: http://www.vishay.com/; ComponentLink2Description: Datasheet; ComponentLink2URL: http://www.vishay.com/docs/25139/eyh.pdf
footprint CAPPRS22.5-40X40-4 (Capacitor, Electrolytic, Radial, Snap-In Pins; Body 40 x 40 mm (Dia.xH typ); Pin Spacing 22.5 mm (typ))
simulation model CAP (Capacitor)
pins: 1, 2, 3 MH, 4 MH

## EYH07DB527E02
designator C?
Aluminum Electrolytic Capacitor, Power Capacitor Style EYH, Snap-in 6mm Solder Pins: 27000uF, 25V; Note: Pins 3 and 4 are Mounting Fixtures Only; PCB_Layout: Complies with Manufacturer's Recommendation.; DrillSize: Nominal, Complies with Manufacturer's Recommendation.; Published: 19-Mar-2004; DatasheetDocument: 14-Feb-2002; PackageReference: CAPPRS22.5-40X40-4; Publisher: Altium Limited; ComponentLink1Description: Manufacturer Link; ComponentLink1URL: http://www.vishay.com/; ComponentLink2Description: Datasheet; ComponentLink2URL: http://www.vishay.com/docs/25139/eyh.pdf
footprint CAPPRS22.5-40X40-4 (Capacitor, Electrolytic, Radial, Snap-In Pins; Body 40 x 40 mm (Dia.xH typ); Pin Spacing 22.5 mm (typ))
simulation model CAP (Capacitor)
pins: 1, 2, 3 MH, 4 MH

## EYH07DB547D02
designator C?
Aluminum Electrolytic Capacitor, Power Capacitor Style EYH, Snap-in 6mm Solder Pins: 47000uF, 16V; Note: Pins 3 and 4 are Mounting Fixtures Only; PCB_Layout: Complies with Manufacturer's Recommendation.; DrillSize: Nominal, Complies with Manufacturer's Recommendation.; Published: 19-Mar-2004; DatasheetDocument: 14-Feb-2002; PackageReference: CAPPRS22.5-40X40-4; Publisher: Altium Limited; ComponentLink1Description: Manufacturer Link; ComponentLink1URL: http://www.vishay.com/; ComponentLink2Description: Datasheet; ComponentLink2URL: http://www.vishay.com/docs/25139/eyh.pdf
footprint CAPPRS22.5-40X40-4 (Capacitor, Electrolytic, Radial, Snap-In Pins; Body 40 x 40 mm (Dia.xH typ); Pin Spacing 22.5 mm (typ))
simulation model CAP (Capacitor)
pins: 1, 2, 3 MH, 4 MH

## EYH07DB556C02
designator C?
Aluminum Electrolytic Capacitor, Power Capacitor Style EYH, Snap-in 6mm Solder Pins: 56000uF, 10V; Note: Pins 3 and 4 are Mounting Fixtures Only; PCB_Layout: Complies with Manufacturer's Recommendation.; DrillSize: Nominal, Complies with Manufacturer's Recommendation.; Published: 19-Mar-2004; DatasheetDocument: 14-Feb-2002; PackageReference: CAPPRS22.5-40X40-4; Publisher: Altium Limited; ComponentLink1Description: Manufacturer Link; ComponentLink1URL: http://www.vishay.com/; ComponentLink2Description: Datasheet; ComponentLink2URL: http://www.vishay.com/docs/25139/eyh.pdf
footprint CAPPRS22.5-40X40-4 (Capacitor, Electrolytic, Radial, Snap-In Pins; Body 40 x 40 mm (Dia.xH typ); Pin Spacing 22.5 mm (typ))
simulation model CAP (Capacitor)
pins: 1, 2, 3 MH, 4 MH

## EYH07DB568B02
designator C?
Aluminum Electrolytic Capacitor, Power Capacitor Style EYH, Snap-in 6mm Solder Pins: 68000uF, 6.3V; Note: Pins 3 and 4 are Mounting Fixtures Only; PCB_Layout: Complies with Manufacturer's Recommendation.; DrillSize: Nominal, Complies with Manufacturer's Recommendation.; Published: 19-Mar-2004; DatasheetDocument: 14-Feb-2002; PackageReference: CAPPRS22.5-40X40-4; Publisher: Altium Limited; ComponentLink1Description: Manufacturer Link; ComponentLink1URL: http://www.vishay.com/; ComponentLink2Description: Datasheet; ComponentLink2URL: http://www.vishay.com/docs/25139/eyh.pdf
footprint CAPPRS22.5-40X40-4 (Capacitor, Electrolytic, Radial, Snap-In Pins; Body 40 x 40 mm (Dia.xH typ); Pin Spacing 22.5 mm (typ))
simulation model CAP (Capacitor)
pins: 1, 2, 3 MH, 4 MH

## EYH07DD356P02
designator C?
Aluminum Electrolytic Capacitor, Power Capacitor Style EYH, Snap-in 6mm Solder Pins: 560uF, 450V; Note: Pins 3 and 4 are Mounting Fixtures Only; PCB_Layout: Complies with Manufacturer's Recommendation.; DrillSize: Nominal, Complies with Manufacturer's Recommendation.; Published: 19-Mar-2004; DatasheetDocument: 14-Feb-2002; PackageReference: CAPPRS22.5-40X50-4; Publisher: Altium Limited; ComponentLink1Description: Manufacturer Link; ComponentLink1URL: http://www.vishay.com/; ComponentLink2Description: Datasheet; ComponentLink2URL: http://www.vishay.com/docs/25139/eyh.pdf
footprint CAPPRS22.5-40X50-4 (Capacitor, Electrolytic, Radial, Snap-In Pins; Body 40 x 50 mm (Dia.xH typ); Pin Spacing 22.5 mm (typ))
simulation model CAP (Capacitor)
pins: 1, 2, 3 MH, 4 MH

## EYH07DD356X02
designator C?
Aluminum Electrolytic Capacitor, Power Capacitor Style EYH, Snap-in 6mm Solder Pins: 560uF, 400V; Note: Pins 3 and 4 are Mounting Fixtures Only; PCB_Layout: Complies with Manufacturer's Recommendation.; DrillSize: Nominal, Complies with Manufacturer's Recommendation.; Published: 19-Mar-2004; DatasheetDocument: 14-Feb-2002; PackageReference: CAPPRS22.5-40X50-4; Publisher: Altium Limited; ComponentLink1Description: Manufacturer Link; ComponentLink1URL: http://www.vishay.com/; ComponentLink2Description: Datasheet; ComponentLink2URL: http://www.vishay.com/docs/25139/eyh.pdf
footprint CAPPRS22.5-40X50-4 (Capacitor, Electrolytic, Radial, Snap-In Pins; Body 40 x 50 mm (Dia.xH typ); Pin Spacing 22.5 mm (typ))
simulation model CAP (Capacitor)
pins: 1, 2, 3 MH, 4 MH

## EYH07DD368O02
designator C?
Aluminum Electrolytic Capacitor, Power Capacitor Style EYH, Snap-in 6mm Solder Pins: 680uF, 350V; Note: Pins 3 and 4 are Mounting Fixtures Only; PCB_Layout: Complies with Manufacturer's Recommendation.; DrillSize: Nominal, Complies with Manufacturer's Recommendation.; Published: 19-Mar-2004; DatasheetDocument: 14-Feb-2002; PackageReference: CAPPRS22.5-40X50-4; Publisher: Altium Limited; ComponentLink1Description: Manufacturer Link; ComponentLink1URL: http://www.vishay.com/; ComponentLink2Description: Datasheet; ComponentLink2URL: http://www.vishay.com/docs/25139/eyh.pdf
footprint CAPPRS22.5-40X50-4 (Capacitor, Electrolytic, Radial, Snap-In Pins; Body 40 x 50 mm (Dia.xH typ); Pin Spacing 22.5 mm (typ))
simulation model CAP (Capacitor)
pins: 1, 2, 3 MH, 4 MH

## EYH07DD412N02
designator C?
Aluminum Electrolytic Capacitor, Power Capacitor Style EYH, Snap-in 6mm Solder Pins: 1200uF, 250V; Note: Pins 3 and 4 are Mounting Fixtures Only; PCB_Layout: Complies with Manufacturer's Recommendation.; DrillSize: Nominal, Complies with Manufacturer's Recommendation.; Published: 19-Mar-2004; DatasheetDocument: 14-Feb-2002; PackageReference: CAPPRS22.5-40X50-4; Publisher: Altium Limited; ComponentLink1Description: Manufacturer Link; ComponentLink1URL: http://www.vishay.com/; ComponentLink2Description: Datasheet; ComponentLink2URL: http://www.vishay.com/docs/25139/eyh.pdf
footprint CAPPRS22.5-40X50-4 (Capacitor, Electrolytic, Radial, Snap-In Pins; Body 40 x 50 mm (Dia.xH typ); Pin Spacing 22.5 mm (typ))
simulation model CAP (Capacitor)
pins: 1, 2, 3 MH, 4 MH

## EYH07DD415S02
designator C?
Aluminum Electrolytic Capacitor, Power Capacitor Style EYH, Snap-in 6mm Solder Pins: 1500uF, 200V; Note: Pins 3 and 4 are Mounting Fixtures Only; PCB_Layout: Complies with Manufacturer's Recommendation.; DrillSize: Nominal, Complies with Manufacturer's Recommendation.; Published: 19-Mar-2004; DatasheetDocument: 14-Feb-2002; PackageReference: CAPPRS22.5-40X50-4; Publisher: Altium Limited; ComponentLink1Description: Manufacturer Link; ComponentLink1URL: http://www.vishay.com/; ComponentLink2Description: Datasheet; ComponentLink2URL: http://www.vishay.com/docs/25139/eyh.pdf
footprint CAPPRS22.5-40X50-4 (Capacitor, Electrolytic, Radial, Snap-In Pins; Body 40 x 50 mm (Dia.xH typ); Pin Spacing 22.5 mm (typ))
simulation model CAP (Capacitor)
pins: 1, 2, 3 MH, 4 MH

## EYH07DD456L02
designator C?
Aluminum Electrolytic Capacitor, Power Capacitor Style EYH, Snap-in 6mm Solder Pins: 5600uF, 100V; Note: Pins 3 and 4 are Mounting Fixtures Only; PCB_Layout: Complies with Manufacturer's Recommendation.; DrillSize: Nominal, Complies with Manufacturer's Recommendation.; Published: 19-Mar-2004; DatasheetDocument: 14-Feb-2002; PackageReference: CAPPRS22.5-40X50-4; Publisher: Altium Limited; ComponentLink1Description: Manufacturer Link; ComponentLink1URL: http://www.vishay.com/; ComponentLink2Description: Datasheet; ComponentLink2URL: http://www.vishay.com/docs/25139/eyh.pdf
footprint CAPPRS22.5-40X50-4 (Capacitor, Electrolytic, Radial, Snap-In Pins; Body 40 x 50 mm (Dia.xH typ); Pin Spacing 22.5 mm (typ))
simulation model CAP (Capacitor)
pins: 1, 2, 3 MH, 4 MH

## EYH07DD468L02
designator C?
Aluminum Electrolytic Capacitor, Power Capacitor Style EYH, Snap-in 6mm Solder Pins: 6800uF, 100V; Note: Pins 3 and 4 are Mounting Fixtures Only; PCB_Layout: Complies with Manufacturer's Recommendation.; DrillSize: Nominal, Complies with Manufacturer's Recommendation.; Published: 19-Mar-2004; DatasheetDocument: 14-Feb-2002; PackageReference: CAPPRS22.5-40X50-4; Publisher: Altium Limited; ComponentLink1Description: Manufacturer Link; ComponentLink1URL: http://www.vishay.com/; ComponentLink2Description: Datasheet; ComponentLink2URL: http://www.vishay.com/docs/25139/eyh.pdf
footprint CAPPRS22.5-40X50-4 (Capacitor, Electrolytic, Radial, Snap-In Pins; Body 40 x 50 mm (Dia.xH typ); Pin Spacing 22.5 mm (typ))
simulation model CAP (Capacitor)
pins: 1, 2, 3 MH, 4 MH

## EYH07DD518H02
designator C?
Aluminum Electrolytic Capacitor, Power Capacitor Style EYH, Snap-in 6mm Solder Pins: 18000uF, 50V; Note: Pins 3 and 4 are Mounting Fixtures Only; PCB_Layout: Complies with Manufacturer's Recommendation.; DrillSize: Nominal, Complies with Manufacturer's Recommendation.; Published: 19-Mar-2004; DatasheetDocument: 14-Feb-2002; PackageReference: CAPPRS22.5-40X50-4; Publisher: Altium Limited; ComponentLink1Description: Manufacturer Link; ComponentLink1URL: http://www.vishay.com/; ComponentLink2Description: Datasheet; ComponentLink2URL: http://www.vishay.com/docs/25139/eyh.pdf
footprint CAPPRS22.5-40X50-4 (Capacitor, Electrolytic, Radial, Snap-In Pins; Body 40 x 50 mm (Dia.xH typ); Pin Spacing 22.5 mm (typ))
simulation model CAP (Capacitor)
pins: 1, 2, 3 MH, 4 MH

## EYH07DD522H02
designator C?
Aluminum Electrolytic Capacitor, Power Capacitor Style EYH, Snap-in 6mm Solder Pins: 22000uF, 50V; Note: Pins 3 and 4 are Mounting Fixtures Only; PCB_Layout: Complies with Manufacturer's Recommendation.; DrillSize: Nominal, Complies with Manufacturer's Recommendation.; Published: 19-Mar-2004; DatasheetDocument: 14-Feb-2002; PackageReference: CAPPRS22.5-40X50-4; Publisher: Altium Limited; ComponentLink1Description: Manufacturer Link; ComponentLink1URL: http://www.vishay.com/; ComponentLink2Description: Datasheet; ComponentLink2URL: http://www.vishay.com/docs/25139/eyh.pdf
footprint CAPPRS22.5-40X50-4 (Capacitor, Electrolytic, Radial, Snap-In Pins; Body 40 x 50 mm (Dia.xH typ); Pin Spacing 22.5 mm (typ))
simulation model CAP (Capacitor)
pins: 1, 2, 3 MH, 4 MH

## EYH07DD527F02
designator C?
Aluminum Electrolytic Capacitor, Power Capacitor Style EYH, Snap-in 6mm Solder Pins: 27000uF, 35V; Note: Pins 3 and 4 are Mounting Fixtures Only; PCB_Layout: Complies with Manufacturer's Recommendation.; DrillSize: Nominal, Complies with Manufacturer's Recommendation.; Published: 19-Mar-2004; DatasheetDocument: 14-Feb-2002; PackageReference: CAPPRS22.5-40X50-4; Publisher: Altium Limited; ComponentLink1Description: Manufacturer Link; ComponentLink1URL: http://www.vishay.com/; ComponentLink2Description: Datasheet; ComponentLink2URL: http://www.vishay.com/docs/25139/eyh.pdf
footprint CAPPRS22.5-40X50-4 (Capacitor, Electrolytic, Radial, Snap-In Pins; Body 40 x 50 mm (Dia.xH typ); Pin Spacing 22.5 mm (typ))
simulation model CAP (Capacitor)
pins: 1, 2, 3 MH, 4 MH

## EYH07DD556D02
designator C?
Aluminum Electrolytic Capacitor, Power Capacitor Style EYH, Snap-in 6mm Solder Pins: 56000uF, 16V; Note: Pins 3 and 4 are Mounting Fixtures Only; PCB_Layout: Complies with Manufacturer's Recommendation.; DrillSize: Nominal, Complies with Manufacturer's Recommendation.; Published: 19-Mar-2004; DatasheetDocument: 14-Feb-2002; PackageReference: CAPPRS22.5-40X50-4; Publisher: Altium Limited; ComponentLink1Description: Manufacturer Link; ComponentLink1URL: http://www.vishay.com/; ComponentLink2Description: Datasheet; ComponentLink2URL: http://www.vishay.com/docs/25139/eyh.pdf
footprint CAPPRS22.5-40X50-4 (Capacitor, Electrolytic, Radial, Snap-In Pins; Body 40 x 50 mm (Dia.xH typ); Pin Spacing 22.5 mm (typ))
simulation model CAP (Capacitor)
pins: 1, 2, 3 MH, 4 MH

## EYH07DD568C02
designator C?
Aluminum Electrolytic Capacitor, Power Capacitor Style EYH, Snap-in 6mm Solder Pins: 68000uF, 10V; Note: Pins 3 and 4 are Mounting Fixtures Only; PCB_Layout: Complies with Manufacturer's Recommendation.; DrillSize: Nominal, Complies with Manufacturer's Recommendation.; Published: 19-Mar-2004; DatasheetDocument: 14-Feb-2002; PackageReference: CAPPRS22.5-40X50-4; Publisher: Altium Limited; ComponentLink1Description: Manufacturer Link; ComponentLink1URL: http://www.vishay.com/; ComponentLink2Description: Datasheet; ComponentLink2URL: http://www.vishay.com/docs/25139/eyh.pdf
footprint CAPPRS22.5-40X50-4 (Capacitor, Electrolytic, Radial, Snap-In Pins; Body 40 x 50 mm (Dia.xH typ); Pin Spacing 22.5 mm (typ))
simulation model CAP (Capacitor)
pins: 1, 2, 3 MH, 4 MH

## EYH07DF368X02
designator C?
Aluminum Electrolytic Capacitor, Power Capacitor Style EYH, Snap-in 6mm Solder Pins: 680uF, 400V; Note: Pins 3 and 4 are Mounting Fixtures Only; PCB_Layout: Complies with Manufacturer's Recommendation.; DrillSize: Nominal, Complies with Manufacturer's Recommendation.; Published: 19-Mar-2004; DatasheetDocument: 14-Feb-2002; PackageReference: CAPPRS22.5-40X60-4; Publisher: Altium Limited; ComponentLink1Description: Manufacturer Link; ComponentLink1URL: http://www.vishay.com/; ComponentLink2Description: Datasheet; ComponentLink2URL: http://www.vishay.com/docs/25139/eyh.pdf
footprint CAPPRS22.5-40X60-4 (Capacitor, Electrolytic, Radial, Snap-In Pins; Body 40 x 60 mm (Dia.xH typ); Pin Spacing 22.5 mm (typ))
simulation model CAP (Capacitor)
pins: 1, 2, 3 MH, 4 MH

## EYH07DF415N02
designator C?
Aluminum Electrolytic Capacitor, Power Capacitor Style EYH, Snap-in 6mm Solder Pins: 1500uF, 250V; Note: Pins 3 and 4 are Mounting Fixtures Only; PCB_Layout: Complies with Manufacturer's Recommendation.; DrillSize: Nominal, Complies with Manufacturer's Recommendation.; Published: 19-Mar-2004; DatasheetDocument: 14-Feb-2002; PackageReference: CAPPRS22.5-40X60-4; Publisher: Altium Limited; ComponentLink1Description: Manufacturer Link; ComponentLink1URL: http://www.vishay.com/; ComponentLink2Description: Datasheet; ComponentLink2URL: http://www.vishay.com/docs/25139/eyh.pdf
footprint CAPPRS22.5-40X60-4 (Capacitor, Electrolytic, Radial, Snap-In Pins; Body 40 x 60 mm (Dia.xH typ); Pin Spacing 22.5 mm (typ))
simulation model CAP (Capacitor)
pins: 1, 2, 3 MH, 4 MH

## EYH07DF527H02
designator C?
Aluminum Electrolytic Capacitor, Power Capacitor Style EYH, Snap-in 6mm Solder Pins: 27000uF, 50V; Note: Pins 3 and 4 are Mounting Fixtures Only; PCB_Layout: Complies with Manufacturer's Recommendation.; DrillSize: Nominal, Complies with Manufacturer's Recommendation.; Published: 19-Mar-2004; DatasheetDocument: 14-Feb-2002; PackageReference: CAPPRS22.5-40X60-4; Publisher: Altium Limited; ComponentLink1Description: Manufacturer Link; ComponentLink1URL: http://www.vishay.com/; ComponentLink2Description: Datasheet; ComponentLink2URL: http://www.vishay.com/docs/25139/eyh.pdf
footprint CAPPRS22.5-40X60-4 (Capacitor, Electrolytic, Radial, Snap-In Pins; Body 40 x 60 mm (Dia.xH typ); Pin Spacing 22.5 mm (typ))
simulation model CAP (Capacitor)
pins: 1, 2, 3 MH, 4 MH